# Altium footprint library Audio_Jack_Attempt.PcbLib: 1 footprints
Each footprint in its own frame and in the unit in brackets; x right, y up, seen from the top. Pads: shape width x height; smd on the part's side, far side on the other; paste and mask are expansions set on the pad; w line width, h text height; cw(c..) or ccw(c..) is an arc to the next point about the centre after c.
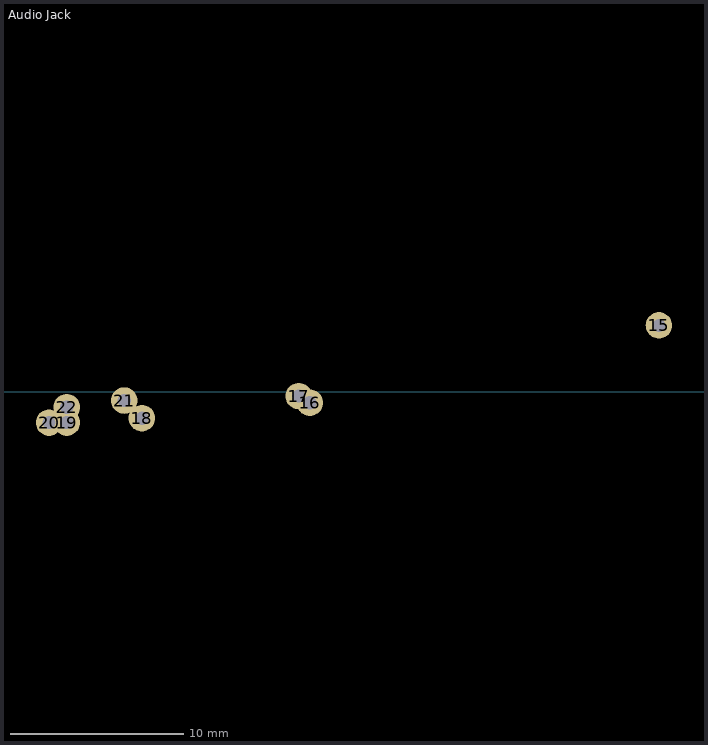
[diagram p0: the footprint, top view; thin cyan lines are the x and y axes]

## Audio Jack [mil]
pads (8):
  round 60 hole 30: 15(-230,150) 16(-1020,-25) 17(-1045,-10) 18(-1400,-60) 19(-1570,-70) 20(-1610,-70) 21(-1440,-20) 22(-1570,-35)